# Altium footprint library Sensor Package.PcbLib: 78 footprints (part 5 of 5)
Each footprint in its own frame and in the unit in brackets; x right, y up, seen from the top. Pads: shape width x height; smd on the part's side, far side on the other; paste and mask are expansions set on the pad; w line width, h text height; cw(c..) or ccw(c..) is an arc to the next point about the centre after c.
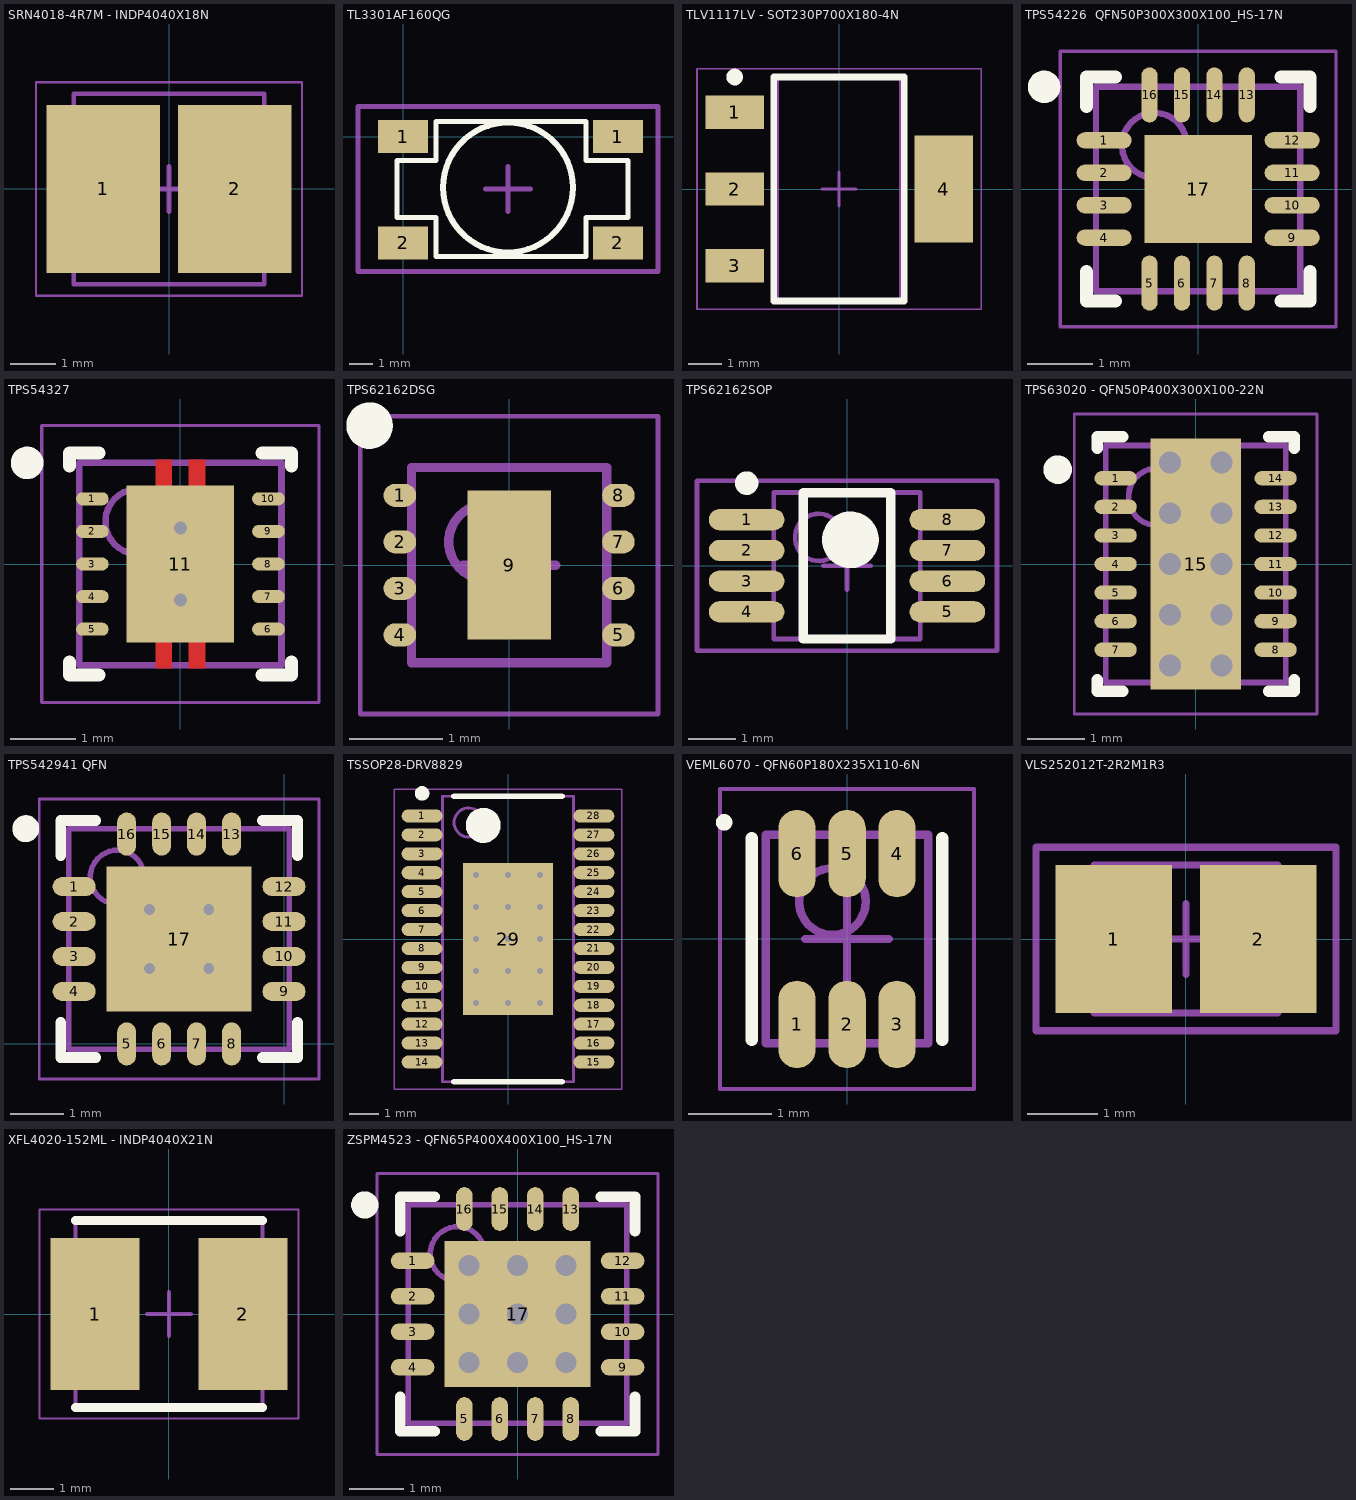
[diagram p4: the footprints below, top view; thin cyan lines are the x and y axes]

## SRN4018-4R7M - INDP4040X18N [mm] "Precision Wire Wound Inductor, 2-Leads, Body 4.00x4.00mm, IPC Medium Density"
height 1.8
pads (2):
  rect 2.5x3.7 smd: 1(-1.45,0) 2(1.45,0)
Mechanical 13:
  lines w0.1: -2.1,-2.1 -2.1,2.1 2.1,2.1 2.1,-2.1 -2.1,-2.1
Mechanical 15:
  lines w0.05: -2.925,-2.35 -2.925,2.35 2.925,2.35 2.925,-2.35 -2.925,-2.35
  lines w0.1: -0.5,0 0.5,0 ; 0,-0.5 0,0.5
3D body: height 1.8, standoff 0, extent -2.1,-2.1 2.1,2.1

## TL3301AF160QG [mm] "TL3301AF160QG Tactile Switch"
pads (4):
  rect 2.1x1.4 smd: 1(0,0) 1(9.1,0) 2(0,-4.5) 2(9.1,-4.5)
Top Overlay:
  circle w0.254: c4.445,-2.159 r2.747
  lines w0.2: -0.254,-3.429 1.397,-3.429 1.397,-5.08 7.366,-5.08 7.747,-5.08 7.747,-3.429 9.525,-3.429 9.525,-1.016 7.747,-1.016 7.747,0.635 1.397,0.635 1.397,-1.016 -0.254,-1.016 -0.254,-3.429
Mechanical 15:
  lines w0.2: 3.492,-2.222 5.397,-2.222 ; 4.445,-3.175 4.445,-1.27 ; -1.905,-5.715 10.795,-5.715 10.795,1.27 -1.905,1.27 -1.905,-5.715
3D body "TL3301AFxxxxG.stp": height 5.11, standoff 0.01, extent -0.428,-5.26 9.572,0.74

## TLV1117LV - SOT230P700X180-4N [mm] "SOT223, 4-Leads, Body 6.50x7.00mm (avg), Pitch 2.30mm, IPC Medium Density"
height 1.8
pads (4):
  rect 1.75x1 smd: 1(-3.125,2.3) 2(-3.125,0) 3(-3.125,-2.3)
  rect 1.75x3.2 smd: 4(3.125,0)
Top Overlay:
  circle w0.25: c-3.125,3.35 r0.125
  lines w0.2: -1.95,-3.35 1.95,-3.35 1.95,3.35 -1.95,3.35 -1.95,-3.35
Mechanical 13:
  lines w0.1: -1.85,-3.35 1.85,-3.35 1.85,3.35 -1.85,3.35 -1.85,-3.35
Mechanical 15:
  lines w0.05: -4.25,-3.6 4.25,-3.6 4.25,3.6 -4.25,3.6 -4.25,-3.6
  lines w0.1: -0.5,0 0.5,0 ; 0,-0.5 0,0.5
3D body: height 1.8, standoff 0.02, extent -1.85,-3.35 1.85,3.35

## TPS54226  QFN50P300X300X100_HS-17N [mm] "QFN, 16-Leads, Body 3.00x3.00mm, Pitch 0.50mm, Thermal Pad 1.66x1.66mm, IPC Medium Density"
height 1
pads (17):
  oval 0.85x0.25 smd: 1(-1.45,0.75) 2(-1.45,0.25) 3(-1.45,-0.25) 4(-1.45,-0.75) 9(1.45,-0.75) 10(1.45,-0.25) 11(1.45,0.25) 12(1.45,0.75)
  oval 0.25x0.85 smd: 5(-0.75,-1.45) 6(-0.25,-1.45) 7(0.25,-1.45) 8(0.75,-1.45) 13(0.75,1.45) 14(0.25,1.45) 15(-0.25,1.45) 16(-0.75,1.45)
  rect 1.66x1.66 smd: 17(0,0)
Top Overlay:
  circle w0.25: c-2.375,1.575 r0.125
  lines w0.2: -1.725,-1.275 -1.725,-1.725 -1.275,-1.725 ; -1.725,1.275 -1.725,1.725 -1.275,1.725 ; 1.275,-1.725 1.725,-1.725 1.725,-1.275 ; 1.275,1.725 1.725,1.725 1.725,1.275
Mechanical 13:
  circle w0.1: c-0.675,0.675 r0.5
  lines w0.1: -1.575,-1.575 1.575,-1.575 1.575,1.575 -1.575,1.575 -1.575,-1.575
Mechanical 15:
  lines w0.05: -2.125,-2.125 2.125,-2.125 2.125,2.125 -2.125,2.125 -2.125,-2.125
  lines w0.1: -0.5,0 0.5,0 ; 0,-0.5 0,0.5
3D body: height 1, standoff 0.01, extent -1.575,-1.575 1.575,1.575

## TPS54327 [mm] "QFN, 18-Leads, Body 3.00x3.00mm, Pitch 0.50mm, Thermal Pad 2.40x1.65mm, IPC Medium Density"
height 1
pads (11):
  oval 0.5x0.2 smd: 1(-1.35,1) 2(-1.35,0.5) 3(-1.35,0) 4(-1.35,-0.5) 5(-1.35,-1) 6(1.35,-1) 7(1.35,-0.5) 8(1.35,0) 9(1.35,0.5) 10(1.35,1)
  rect 1.65x2.4 smd: 11(0,0)
via 0,-0.55 diameter 0.5 hole 0.2
via 0,0.55 diameter 0.5 hole 0.2
Top Layer:
  rectangle: 0.127,1.194 0.381,1.6
  rectangle: -0.381,1.194 -0.127,1.6
  rectangle: -0.381,-1.6 -0.127,-1.194
  rectangle: 0.127,-1.6 0.381,-1.194
Top Overlay:
  circle w0.25: c-2.35,1.55 r0.125
  lines w0.2: -1.7,-1.5 -1.7,-1.7 -1.25,-1.7 ; -1.7,1.5 -1.7,1.7 -1.25,1.7 ; 1.25,-1.7 1.7,-1.7 1.7,-1.5 ; 1.25,1.7 1.7,1.7 1.7,1.5
Mechanical 13:
  circle w0.1: c-0.65,0.65 r0.5
  lines w0.1: -1.55,-1.55 1.55,-1.55 1.55,1.55 -1.55,1.55 -1.55,-1.55
Mechanical 15:
  lines w0.05: -2.125,-2.125 2.125,-2.125 2.125,2.125 -2.125,2.125 -2.125,-2.125
  lines w0.1: -0.5,0 0.5,0 ; 0,-0.5 0,0.5
3D body: height 1, standoff 0.05, extent -1.55,-1.55 1.55,1.55

## TPS62162DSG [mm] "QFN, 16-Leads, Body 2.00x2.00mm, Pitch 0.50mm, Thermal Pad 0.90x1.60mm, IPC Medium Density"
height 0.8
pads (9):
  oval 0.35x0.25 smd: 1(-1.175,0.75) 2(-1.175,0.25) 3(-1.175,-0.25) 4(-1.175,-0.75) 5(1.175,-0.75) 6(1.175,-0.25) 7(1.175,0.25) 8(1.175,0.75)
  rect 0.9x1.6 smd: 9(0,0)
Top Overlay:
  circle w0.25: c-1.5,1.5 r0.125
Mechanical 13:
  circle w0.1: c-0.25,0.25 r0.4
  lines w0.1: -1.05,-1.05 -1.05,1.05 1.05,1.05 1.05,-1.05 -1.05,-1.05
Mechanical 15:
  lines w0.05: -1.6,-1.6 -1.6,1.6 1.6,1.6 1.6,-1.6 -1.6,-1.6
  lines w0.1: -0.5,0 0.5,0 ; 0,-0.5 0,0.5
3D body: height 0.8, standoff 0.05, extent -1.05,-1.05 1.05,1.05

## TPS62162SOP [mm] "SOP 8 pin package"
height 1.1
pads (8):
  oval 1.6x0.45 smd: 1(-2.125,0.975) 2(-2.125,0.325) 3(-2.125,-0.325) 4(-2.125,-0.975) 5(2.125,-0.975) 6(2.125,-0.325) 7(2.125,0.325) 8(2.125,0.975)
Top Overlay:
  circle w0.6: c0.075,0.55 r0.3
  circle w0.25: c-2.125,1.75 r0.125
  lines w0.2: -0.925,-1.55 0.925,-1.55 0.925,1.55 -0.925,1.55 -0.925,-1.55
Mechanical 13:
  circle w0.1: c-0.6,0.6 r0.5
  lines w0.1: -1.55,-1.55 1.55,-1.55 1.55,1.55 -1.55,1.55 -1.55,-1.55
Mechanical 15:
  lines w0.1: -0.5,0 0.5,0 ; 0,-0.5 0,0.5 ; -3.175,-1.8 3.175,-1.8 3.175,1.8 -3.175,1.8 -3.175,-1.8
3D body: height 1.1, standoff 0.23, extent -1.55,-1.55 1.55,1.55

## TPS63020 - QFN50P400X300X100-22N [mm] "QFN, 22-Leads, Body 4.00x3.00mm, Pitch 0.50mm, IPC Medium Density"
height 1
pads (15):
  oval 0.74x0.25 smd: 1(-1.4,1.5) 2(-1.4,1) 3(-1.4,0.5) 4(-1.4,0) 5(-1.4,-0.5) 6(-1.4,-1) 7(-1.4,-1.5) 8(1.4,-1.5) 9(1.4,-1) 10(1.4,-0.5) 11(1.4,0) 12(1.4,0.5) 13(1.4,1) 14(1.4,1.5)
  rect 1.58x4.4 smd: 15(0,0)
via 0.45,-0.889 diameter 0.635 hole 0.381
via -0.45,-0.889 diameter 0.635 hole 0.381
via 0.45,0.889 diameter 0.635 hole 0.381
via -0.45,0.889 diameter 0.635 hole 0.381
via 0.45,1.778 diameter 0.635 hole 0.381
via -0.45,1.778 diameter 0.635 hole 0.381
via 0.45,-1.778 diameter 0.635 hole 0.381
via -0.45,-1.778 diameter 0.635 hole 0.381
via -0.45,0 diameter 0.635 hole 0.381
via 0.45,0 diameter 0.635 hole 0.381
Top Overlay:
  circle w0.25: c-2.413,1.651 r0.125
  lines w0.2: -1.725,-2.025 -1.725,-2.225 -1.275,-2.225 ; -1.725,2.025 -1.725,2.225 -1.275,2.225 ; 1.275,-2.225 1.725,-2.225 1.725,-2.025 ; 1.275,2.225 1.725,2.225 1.725,2.025
Mechanical 13:
  circle w0.1: c-0.675,1.175 r0.5
  lines w0.1: -1.575,-2.075 1.575,-2.075 1.575,2.075 -1.575,2.075 -1.575,-2.075
Mechanical 15:
  lines w0.05: -2.125,-2.625 2.125,-2.625 2.125,2.625 -2.125,2.625 -2.125,-2.625
  lines w0.1: -0.5,0 0.5,0 ; 0,-0.5 0,0.5
3D body: height 1, standoff 0.02, extent -1.575,-2.075 1.575,2.075

## TPS542941 QFN [mm] "QFN, 16-Leads, Body 4.00x4.00mm, Pitch 0.65mm, Thermal Pad 2.70x2.70mm, IPC Medium Density"
height 1
pads (17):
  oval 0.8x0.35 smd: 1(-3.9,2.925) 2(-3.9,2.275) 3(-3.9,1.625) 4(-3.9,0.975) 9(0,0.975) 10(0,1.625) 11(0,2.275) 12(0,2.925)
  oval 0.35x0.8 smd: 5(-2.925,0) 6(-2.275,0) 7(-1.625,0) 8(-0.975,0) 13(-0.975,3.9) 14(-1.625,3.9) 15(-2.275,3.9) 16(-2.925,3.9)
  rect 2.7x2.7 smd: 17(-1.95,1.95)
via -2.5,2.5 diameter 0.5 hole 0.2
via -1.4,2.5 diameter 0.5 hole 0.2
via -2.5,1.4 diameter 0.5 hole 0.2
via -1.4,1.4 diameter 0.5 hole 0.2
Top Overlay:
  circle w0.25: c-4.8,4 r0.125
  lines w0.2: -4.15,0.4 -4.15,-0.25 -3.5,-0.25 ; -4.15,3.5 -4.15,4.15 -3.5,4.15 ; -0.4,-0.25 0.25,-0.25 0.25,0.4 ; -0.4,4.15 0.25,4.15 0.25,3.5
Mechanical 13:
  circle w0.1: c-3.1,3.1 r0.5
  lines w0.1: -4,-0.1 -4,4 0.1,4 0.1,-0.1 -4,-0.1
Mechanical 15:
  lines w0.05: -4.55,-0.65 -4.55,4.55 0.65,4.55 0.65,-0.65 -4.55,-0.65
  lines w0.1: -2.45,1.95 -1.45,1.95 ; -1.95,1.45 -1.95,2.45
3D body: height 1, standoff 0.01, extent -4,-0.1 0.1,4

## TSSOP28-DRV8829 [mm] "TSOP, 28-Leads, Body 9.70x4.40mm, Pitch 0.65mm, Thermal Pad 5.22x3.10mm, IPC Medium Density"
height 1.2
pads (29):
  oval 1.4x0.45 smd: 1(-2.95,4.225) 2(-2.95,3.575) 3(-2.95,2.925) 4(-2.95,2.275) 5(-2.95,1.625) 6(-2.95,0.975) 7(-2.95,0.325) 8(-2.95,-0.325) 9(-2.95,-0.975) 10(-2.95,-1.625) 11(-2.95,-2.275) 12(-2.95,-2.925) 13(-2.95,-3.575) 14(-2.95,-4.225) 15(2.95,-4.225) 16(2.95,-3.575) 17(2.95,-2.925) 18(2.95,-2.275) 19(2.95,-1.625) 20(2.95,-0.975) 21(2.95,-0.325) 22(2.95,0.325) 23(2.95,0.975) 24(2.95,1.625) 25(2.95,2.275) 26(2.95,2.925) 27(2.95,3.575) 28(2.95,4.225)
  rect 3.1x5.22 smd: 29(0,0)
via 1.1,-2.2 diameter 0.5 hole 0.2
via 0,-2.2 diameter 0.5 hole 0.2
via -1.1,-2.2 diameter 0.5 hole 0.2
via 1.1,-1.1 diameter 0.5 hole 0.2
via 0,-1.1 diameter 0.5 hole 0.2
via -1.1,-1.1 diameter 0.5 hole 0.2
via 1.1,0 diameter 0.5 hole 0.2
via 0,0 diameter 0.5 hole 0.2
via -1.1,0 diameter 0.5 hole 0.2
via 1.1,1.1 diameter 0.5 hole 0.2
via 0,1.1 diameter 0.5 hole 0.2
via -1.1,1.1 diameter 0.5 hole 0.2
via 1.1,2.2 diameter 0.5 hole 0.2
via 0,2.2 diameter 0.5 hole 0.2
via -1.1,2.2 diameter 0.5 hole 0.2
Top Overlay:
  circle w0.6: c-0.85,3.9 r0.3
  circle w0.25: c-2.95,5 r0.125
  lines w0.2: -1.85,-4.9 1.85,-4.9 ; -1.85,4.9 1.85,4.9
Mechanical 13:
  circle w0.1: c-1.35,4 r0.5
  lines w0.1: -2.25,-4.9 2.25,-4.9 2.25,4.9 -2.25,4.9 -2.25,-4.9
Mechanical 15:
  lines w0.05: -3.9,-5.15 3.9,-5.15 3.9,5.15 -3.9,5.15 -3.9,-5.15
  lines w0.1: -0.5,0 0.5,0 ; 0,-0.5 0,0.5
3D body: height 1.2, standoff 0.1, extent -2.25,-4.9 2.25,4.9

## VEML6070 - QFN60P180X235X110-6N [mm] "QFN, 6-Leads, Body 1.80x2.35mm, Pitch 0.60mm, IPC Medium Density"
height 1.1
pads (6):
  oval 0.45x1.05 smd: 1(-0.6,-1.025) 2(0,-1.025) 3(0.6,-1.025) 4(0.6,1.025) 5(0,1.025) 6(-0.6,1.025)
Top Overlay:
  circle w0.1: c-1.475,1.4 r0.05
  lines w0.15: -1.143,-1.206 -1.143,1.206 ; 1.143,-1.206 1.143,1.206
Mechanical 13:
  circle w0.1: c-0.175,0.45 r0.4
  lines w0.1: -0.975,-1.25 0.975,-1.25 0.975,1.25 -0.975,1.25 -0.975,-1.25
Mechanical 15:
  lines w0.05: -1.525,-1.8 1.525,-1.8 1.525,1.8 -1.525,1.8 -1.525,-1.8
  lines w0.1: -0.5,0 0.5,0 ; 0,-0.5 0,0.5
3D body: height 1.1, standoff 0.02, extent -0.975,-1.25 0.975,1.25

## VLS252012T-2R2M1R3 [mm] "Precision Wire Wound Inductor, 2-Leads, Body 2.5x2.0mm, IPC Medium Density"
height 1.2
pads (2):
  rect 1.65x2.1 smd: 1(-1.025,0) 2(1.025,0)
Mechanical 13:
  lines w0.1: -1.3,-1.05 1.3,-1.05 1.3,1.05 -1.3,1.05 -1.3,-1.05
Mechanical 15:
  lines w0.1: -0.5,0 0.5,0 ; 0,-0.5 0,0.5 ; -2.125,-1.3 2.125,-1.3 2.125,1.3 -2.125,1.3 -2.125,-1.3
3D body: height 1.2, standoff 0, extent -1.3,-1.05 1.3,1.05

## XFL4020-152ML - INDP4040X21N [mm] "Precision Wire Wound Inductor, 2-Leads, Body 4.00x4.00mm, IPC Medium Density"
height 2.1
pads (2):
  rect 2.05x3.5 smd: 1(-1.7,0) 2(1.7,0)
Top Overlay:
  lines w0.2: -2.15,-2.15 2.15,-2.15 ; -2.15,2.15 2.15,2.15
Mechanical 13:
  lines w0.1: -2.15,-2.15 2.15,-2.15 2.15,2.15 -2.15,2.15 -2.15,-2.15
Mechanical 15:
  lines w0.05: -2.975,-2.4 2.975,-2.4 2.975,2.4 -2.975,2.4 -2.975,-2.4
  lines w0.1: -0.5,0 0.5,0 ; 0,-0.5 0,0.5
3D body: height 2.1, standoff 0, extent -2.15,-2.15 2.15,2.15

## ZSPM4523 - QFN65P400X400X100_HS-17N [mm] "QFN, 16-Leads, Body 4.00x4.00mm, Pitch 0.65mm, Thermal Pad 2.68x2.68mm, IPC Medium Density"
height 1
pads (17):
  oval 0.8x0.3 smd: 1(-1.925,0.975) 2(-1.925,0.325) 3(-1.925,-0.325) 4(-1.925,-0.975) 9(1.925,-0.975) 10(1.925,-0.325) 11(1.925,0.325) 12(1.925,0.975)
  oval 0.3x0.8 smd: 5(-0.975,-1.925) 6(-0.325,-1.925) 7(0.325,-1.925) 8(0.975,-1.925) 13(0.975,1.925) 14(0.325,1.925) 15(-0.325,1.925) 16(-0.975,1.925)
  rect 2.68x2.68 smd: 17(0,0)
via 0,-0.889 diameter 0.635 hole 0.381
via -0.889,0 diameter 0.635 hole 0.381
via 0.889,0 diameter 0.635 hole 0.381
via 0,0.889 diameter 0.635 hole 0.381
via -0.889,0.889 diameter 0.635 hole 0.381
via 0.889,0.889 diameter 0.635 hole 0.381
via 0.889,-0.889 diameter 0.635 hole 0.381
via -0.889,-0.889 diameter 0.635 hole 0.381
via 0,0 diameter 0.635 hole 0.381
Top Overlay:
  circle w0.25: c-2.8,2 r0.125
  lines w0.2: -2.15,-1.525 -2.15,-2.15 -1.525,-2.15 ; -2.15,1.525 -2.15,2.15 -1.525,2.15 ; 1.525,-2.15 2.15,-2.15 2.15,-1.525 ; 1.525,2.15 2.15,2.15 2.15,1.525
Mechanical 13:
  circle w0.1: c-1.1,1.1 r0.5
  lines w0.1: -2,-2 2,-2 2,2 -2,2 -2,-2
Mechanical 15:
  lines w0.05: -2.575,-2.575 2.575,-2.575 2.575,2.575 -2.575,2.575 -2.575,-2.575
  lines w0.1: -0.5,0 0.5,0 ; 0,-0.5 0,0.5
3D body: height 1, standoff 0.02, extent -2,-2 2,2